# Altium footprint library Miscellaneous Connectors 05_10_18.PcbLib: 192 footprints (part 1 of 12)
Each footprint in its own frame and in the unit in brackets; x right, y up, seen from the top. Pads: shape width x height; smd on the part's side, far side on the other; paste and mask are expansions set on the pad; w line width, h text height; cw(c..) or ccw(c..) is an arc to the next point about the centre after c.
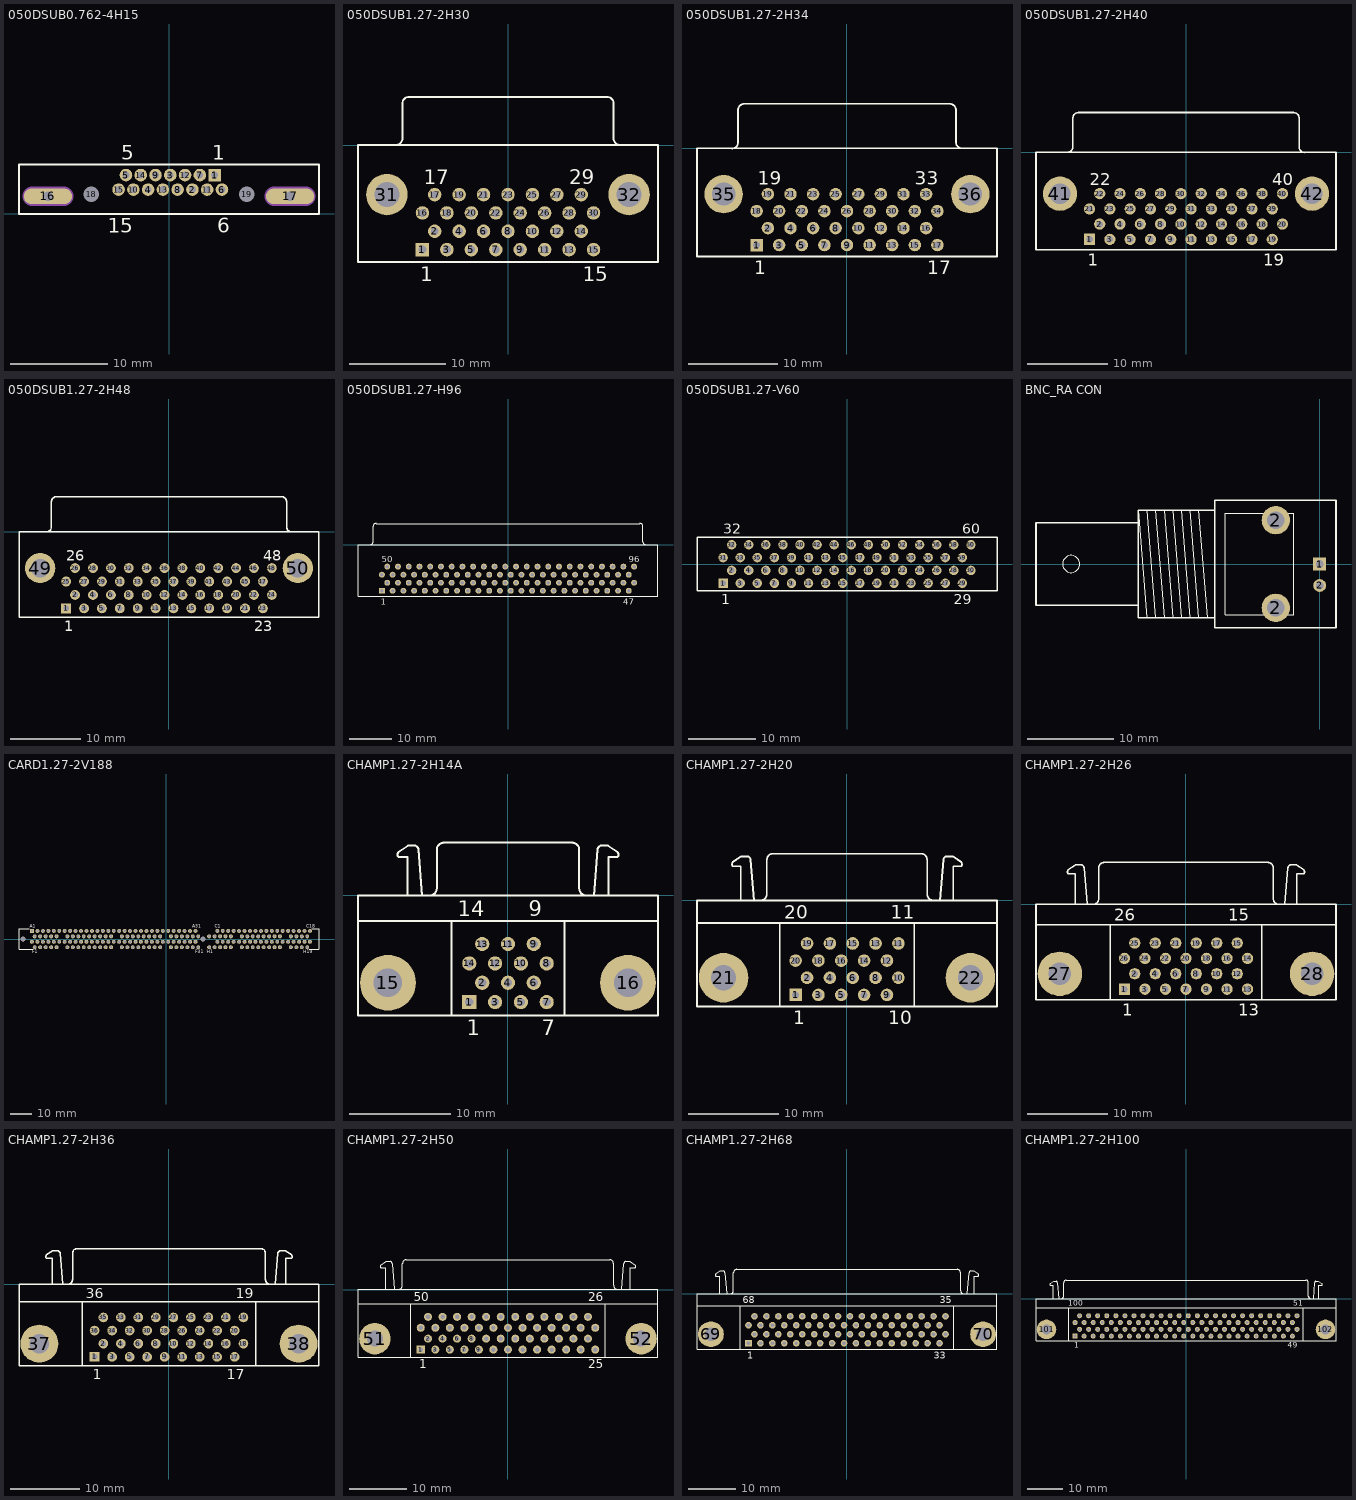
[diagram p0: the footprints below, top view; thin cyan lines are the x and y axes]

## 050DSUB0.762-4H15 [mm] "Connector; D Subminiature; 15 Position; Right Angle; Pitch 0.762 mm"
height 12.65
pads (19):
  rect 1.3x1.3 hole 0.7: 1(4.703,4)
  round 1.3 hole 0.7: 2(2.417,2.5) 3(0.131,4) 4(-2.155,2.5) 5(-4.441,4) 6(5.465,2.5) 7(3.179,4) 8(0.893,2.5) 9(-1.393,4) 10(-3.679,2.5) 11(3.941,2.5) 12(1.655,4) 13(-0.631,2.5) 14(-2.917,4) 15(-5.203,2.5)
  oval 5x1.6 hole 1: 16(-12.495,1.8) 17(12.495,1.8)
  round 1.3 hole 1.6: 18(-8,2) 19(8,2)
Top Overlay:
  lines w0.2: -15.48,0 15.48,0 15.48,5.1 -15.48,5.1 -15.48,0
  text "15" at -6.328,-1.975 h1.5
  text "6" at 4.965,-1.975 h1.5
  text "1" at 4.453,5.6 h1.5
  text "5" at -4.941,5.6 h1.5
Mechanical 1:
  lines w1.2: -14.12,1.8 -10.87,1.8 ; 10.87,1.8 14.12,1.8
  text "Alert PCB fab to slot details" at -15.505,-1.17 h0.3
  text "Slot 1.2x4.45mm, PTH" at -15.505,-1.67 h0.3
  text "Assign keep-out area to slot" at -15.505,-0.67 h0.3
  text "Mech 1 - Slot cut-out" at -15.505,-2.17 h0.3
  text "Mech 2 - Clearance, move to internal plane if present" at -15.505,-2.67 h0.3
Mechanical 2:
  lines w2.016: -14.12,1.8 -10.87,1.8 ; 10.87,1.8 14.12,1.8

## 050DSUB1.27-2H30 [mm] "Connector; D Subminiature; 30 Position; Right Angle; Pitch 1.27 mm"
height 8.1
pads (32):
  rect 1.4x1.4 hole 0.8: 1(-8.89,-10.87)
  round 1.4 hole 0.8: 2(-7.62,-8.965) 3(-6.35,-10.87) 4(-5.08,-8.965) 5(-3.81,-10.87) 6(-2.54,-8.965) 7(-1.27,-10.87) 8(0,-8.965) 9(1.27,-10.87) 10(2.54,-8.965) 11(3.81,-10.87) 12(5.08,-8.965) 13(6.35,-10.87) 14(7.62,-8.965) 15(8.89,-10.87) 16(-8.89,-7.06) 17(-7.62,-5.155) 18(-6.35,-7.06) 19(-5.08,-5.155) 20(-3.81,-7.06) 21(-2.54,-5.155) 22(-1.27,-7.06) 23(0,-5.155) 24(1.27,-7.06) 25(2.54,-5.155) 26(3.81,-7.06) 27(5.08,-5.155) 28(6.35,-7.06) 29(7.62,-5.155) 30(8.89,-7.06)
  round 4.3 hole 2.6: 31(-12.59,-5.155) 32(12.59,-5.155)
Top Overlay:
  lines w0.2: -11.67,0 ccw(c-11.67,0.695) -10.975,0.695 ; -10.975,0.715 -10.975,4.305 cw(c-10.28,4.305) -10.28,5 10.28,5 cw(c10.28,4.305) 10.975,4.305 ; 10.975,4.495 10.975,0.695 ccw(c11.67,0.695) 11.67,0 ; -15.59,-12.17 -15.59,0 15.59,0 15.59,-12.17 -15.59,-12.17
  text "17" at -8.745,-4.08 h1.5
  text "29" at 6.37,-4.08 h1.5
  text "1" at -9.14,-14.145 h1.5
  text "15" at 7.765,-14.145 h1.5

## 050DSUB1.27-2H34 [mm] "Connector; D Subminiature; 34 Position; Right Angle; Pitch 1.27 mm"
height 7.6
pads (36):
  rect 1.4x1.4 hole 0.8: 1(-10.16,-10.87)
  round 1.4 hole 0.8: 2(-8.89,-8.965) 3(-7.62,-10.87) 4(-6.35,-8.965) 5(-5.08,-10.87) 6(-3.81,-8.965) 7(-2.54,-10.87) 8(-1.27,-8.965) 9(0,-10.87) 10(1.27,-8.965) 11(2.54,-10.87) 12(3.81,-8.965) 13(5.08,-10.87) 14(6.35,-8.965) 15(7.62,-10.87) 16(8.89,-8.965) 17(10.16,-10.87) 18(-10.16,-7.06) 19(-8.89,-5.155) 20(-7.62,-7.06) 21(-6.35,-5.155) 22(-5.08,-7.06) 23(-3.81,-5.155) 24(-2.54,-7.06) 25(-1.27,-5.155) 26(0,-7.06) 27(1.27,-5.155) 28(2.54,-7.06) 29(3.81,-5.155) 30(5.08,-7.06) 31(6.35,-5.155) 32(7.62,-7.06) 33(8.89,-5.155) 34(10.16,-7.06)
  round 4.3 hole 2.6: 35(-13.86,-5.155) 36(13.86,-5.155)
Top Overlay:
  lines w0.2: -12.94,-0.02 ccw(c-12.94,0.675) -12.245,0.675 -12.245,4.305 cw(c-11.55,4.305) -11.55,5 11.5,5 ; 11.55,5 cw(c11.55,4.305) 12.245,4.305 12.245,0.695 ccw(c12.94,0.695) 12.94,0 ; -16.86,-12.17 -16.86,0 16.86,0 16.86,-12.17 -16.86,-12.17
  text "17" at 9.035,-14.145 h1.5
  text "1" at -10.41,-14.145 h1.5
  text "33" at 7.64,-4.08 h1.5
  text "19" at -10.015,-4.08 h1.5

## 050DSUB1.27-2H40 [mm] "Connector; D Subminiature; 40 Position; Right Angle; Pitch 1.27 mm"
height 8.1
pads (42):
  rect 1.4x1.4 hole 0.8: 1(-12.065,-10.87)
  round 1.4 hole 0.8: 2(-10.795,-8.965) 3(-9.525,-10.87) 4(-8.255,-8.965) 5(-6.985,-10.87) 6(-5.715,-8.965) 7(-4.445,-10.87) 8(-3.175,-8.965) 9(-1.905,-10.87) 10(-0.635,-8.965) 11(0.635,-10.87) 12(1.905,-8.965) 13(3.175,-10.87) 14(4.445,-8.965) 15(5.715,-10.87) 16(6.985,-8.965) 17(8.255,-10.87) 18(9.525,-8.965) 19(10.795,-10.87) 20(12.065,-8.965) 21(-12.065,-7.06) 22(-10.795,-5.155) 23(-9.525,-7.06) 24(-8.255,-5.155) 25(-6.985,-7.06) 26(-5.715,-5.155) 27(-4.445,-7.06) 28(-3.175,-5.155) 29(-1.905,-7.06) 30(-0.635,-5.155) 31(0.635,-7.06) 32(1.905,-5.155) 33(3.175,-7.06) 34(4.445,-5.155) 35(5.715,-7.06) 36(6.985,-5.155) 37(8.255,-7.06) 38(9.525,-5.155) 39(10.795,-7.06) 40(12.065,-5.155)
  round 4.3 hole 2.6: 41(-15.765,-5.155) 42(15.765,-5.155)
Top Overlay:
  lines w0.2: -14.845,0.02 ccw(c-14.845,0.715) -14.15,0.715 -14.15,4.305 cw(c-13.455,4.305) -13.455,5 ; -13.5,5 13.5,5 ; 13.455,5 cw(c13.455,4.305) 14.15,4.305 14.15,0.687 ccw(c14.845,0.687) 14.845,-0.008 ; -18.765,-12.17 -18.765,0 18.765,0 18.765,-12.17 -18.765,-12.17
  text "19" at 9.67,-14.145 h1.5
  text "1" at -12.315,-14.145 h1.5
  text "22" at -12.045,-4.08 h1.5
  text "40" at 10.815,-4.08 h1.5

## 050DSUB1.27-2H48 [mm] "Connector; D Subminiature; 48 Position; Right Angle; Pitch 1.27 mm"
height 7.6
pads (50):
  rect 1.4x1.4 hole 0.8: 1(-14.605,-10.87)
  round 1.4 hole 0.8: 2(-13.335,-8.965) 3(-12.065,-10.87) 4(-10.795,-8.965) 5(-9.525,-10.87) 6(-8.255,-8.965) 7(-6.985,-10.87) 8(-5.715,-8.965) 9(-4.445,-10.87) 10(-3.175,-8.965) 11(-1.905,-10.87) 12(-0.635,-8.965) 13(0.635,-10.87) 14(1.905,-8.965) 15(3.175,-10.87) 16(4.445,-8.965) 17(5.715,-10.87) 18(6.985,-8.965) 19(8.255,-10.87) 20(9.525,-8.965) 21(10.795,-10.87) 22(12.065,-8.965) 23(13.335,-10.87) 24(14.605,-8.965) 25(-14.605,-7.06) 26(-13.335,-5.155) 27(-12.065,-7.06) 28(-10.795,-5.155) 29(-9.525,-7.06) 30(-8.255,-5.155) 31(-6.985,-7.06) 32(-5.715,-5.155) 33(-4.445,-7.06) 34(-3.175,-5.155) 35(-1.905,-7.06) 36(-0.635,-5.155) 37(0.635,-7.06) 38(1.905,-5.155) 39(3.175,-7.06) 40(4.445,-5.155) 41(5.715,-7.06) 42(6.985,-5.155) 43(8.255,-7.06) 44(9.525,-5.155) 45(10.795,-7.06) 46(12.065,-5.155) 47(13.335,-7.06) 48(14.605,-5.155)
  round 4.3 hole 2.6: 49(-18.305,-5.155) 50(18.305,-5.155)
Top Overlay:
  lines w0.2: -17.385,0.002 ccw(c-17.385,0.697) -16.69,0.697 -16.69,4.305 cw(c-15.995,4.305) -15.995,5 ; -16,5 16,5 ; 15.995,5 cw(c15.995,4.305) 16.69,4.305 16.69,0.717 ccw(c17.385,0.717) 17.385,0.022 ; -21.305,-12.17 21.305,-12.17 21.305,0 -21.305,0 -21.305,-12.17
  text "26" at -14.585,-4.08 h1.5
  text "48" at 13.355,-4.08 h1.5
  text "1" at -14.855,-14.145 h1.5
  text "23" at 12.085,-14.145 h1.5

## 050DSUB1.27-H96 [mm] "Connector; D Subminiature; 96 Position; Right Angle; Pitch 1.27 mm"
height 7.5
pads (96):
  rect 1.4x1.4 hole 0.8: 1(-29.845,-10.915)
  round 1.4 hole 0.8: 2(-28.575,-9.01) 3(-27.305,-10.915) 4(-26.035,-9.01) 5(-24.765,-10.915) 6(-23.495,-9.01) 7(-22.225,-10.915) 8(-20.955,-9.01) 9(-19.685,-10.915) 10(-18.415,-9.01) 11(-17.145,-10.915) 12(-15.875,-9.01) 13(-14.605,-10.915) 14(-13.335,-9.01) 15(-12.065,-10.915) 16(-10.795,-9.01) 17(-9.525,-10.915) 18(-8.255,-9.01) 19(-6.985,-10.915) 20(-5.715,-9.01) 21(-4.445,-10.915) 22(-3.175,-9.01) 23(-1.905,-10.915) 24(-0.635,-9.01) 25(0.635,-10.915) 26(1.905,-9.01) 27(3.175,-10.915) 28(4.445,-9.01) 29(5.715,-10.915) 30(6.985,-9.01) 31(8.255,-10.915) 32(9.525,-9.01) 33(10.795,-10.915) 34(12.065,-9.01) 35(13.335,-10.915) 36(14.605,-9.01) 37(15.875,-10.915) 38(17.145,-9.01) 39(18.415,-10.915) 40(19.685,-9.01) 41(20.955,-10.915) 42(22.225,-9.01) 43(23.495,-10.915) 44(24.765,-9.01) 45(26.035,-10.915) 46(27.305,-9.01) 47(28.575,-10.915) 48(29.845,-9.01) 49(-29.845,-7.105) 50(-28.575,-5.2) 51(-27.305,-7.105) 52(-26.035,-5.2) 53(-24.765,-7.105) 54(-23.495,-5.2) 55(-22.225,-7.105) 56(-20.955,-5.2) 57(-19.685,-7.105) 58(-18.415,-5.2) 59(-17.145,-7.105) 60(-15.875,-5.2) 61(-14.605,-7.105) 62(-13.335,-5.2) 63(-12.065,-7.105) 64(-10.795,-5.2) 65(-9.525,-7.105) 66(-8.255,-5.2) 67(-6.985,-7.105) 68(-5.715,-5.2) 69(-4.445,-7.105) 70(-3.175,-5.2) 71(-1.905,-7.105) 72(-0.635,-5.2) 73(0.635,-7.105) 74(1.905,-5.2) 75(3.175,-7.105) 76(4.445,-5.2) 77(5.715,-7.105) 78(6.985,-5.2) 79(8.255,-7.105) 80(9.525,-5.2) 81(10.795,-7.105) 82(12.065,-5.2) 83(13.335,-7.105) 84(14.605,-5.2) 85(15.875,-7.105) 86(17.145,-5.2) 87(18.415,-7.105) 88(19.685,-5.2) 89(20.955,-7.105) 90(22.225,-5.2) 91(23.495,-7.105) 92(24.765,-5.2) 93(26.035,-7.105) 94(27.305,-5.2) 95(28.575,-7.105) 96(29.845,-5.2)
Top Overlay:
  lines w0.2: -32.625,0.005 ccw(c-32.625,0.7) -31.93,0.7 -31.93,4.33 cw(c-31.235,4.33) -31.235,5.025 ; -31.235,5 31.235,5 ; 31.235,5.025 cw(c31.235,4.33) 31.93,4.33 31.93,0.7 ccw(c32.625,0.7) 32.625,0.005 ; -35.5,-12.2 -35.5,0 35.5,0 35.5,-12.2 -35.5,-12.2
  text "96" at 28.595,-4.125 h1.5
  text "50" at -29.825,-4.125 h1.5
  text "1" at -30.095,-14.175 h1.5
  text "47" at 27.325,-14.175 h1.5

## 050DSUB1.27-V60 [mm] "Connector; D Subminiature; 60 Position; Vertical; Pitch 1.27 mm"
height 8
pads (60):
  rect 1.4x1.4 hole 0.8: 1(-18.415,-2.857)
  round 1.4 hole 0.8: 2(-17.145,-0.953) 3(-15.875,-2.857) 4(-14.605,-0.953) 5(-13.335,-2.857) 6(-12.065,-0.953) 7(-10.795,-2.857) 8(-9.525,-0.953) 9(-8.255,-2.857) 10(-6.985,-0.953) 11(-5.715,-2.857) 12(-4.445,-0.953) 13(-3.175,-2.857) 14(-1.905,-0.953) 15(-0.635,-2.857) 16(0.635,-0.953) 17(1.905,-2.857) 18(3.175,-0.953) 19(4.445,-2.857) 20(5.715,-0.953) 21(6.985,-2.857) 22(8.255,-0.953) 23(9.525,-2.857) 24(10.795,-0.953) 25(12.065,-2.857) 26(13.335,-0.953) 27(14.605,-2.857) 28(15.875,-0.953) 29(17.145,-2.857) 30(18.415,-0.953) 31(-18.415,0.953) 32(-17.145,2.857) 33(-15.875,0.953) 34(-14.605,2.857) 35(-13.335,0.953) 36(-12.065,2.857) 37(-10.795,0.953) 38(-9.525,2.857) 39(-8.255,0.953) 40(-6.985,2.857) 41(-5.715,0.953) 42(-4.445,2.857) 43(-3.175,0.953) 44(-1.905,2.857) 45(-0.635,0.953) 46(0.635,2.857) 47(1.905,0.953) 48(3.175,2.857) 49(4.445,0.953) 50(5.715,2.857) 51(6.985,0.953) 52(8.255,2.857) 53(9.525,0.953) 54(10.795,2.857) 55(12.065,0.953) 56(13.335,2.857) 57(14.605,0.953) 58(15.875,2.857) 59(17.145,0.953) 60(18.415,2.857)
Top Overlay:
  lines w0.2: -22.3,-4 22.3,-4 22.3,4 -22.3,4 -22.3,-4
  text "60" at 17.165,4.475 h1.5
  text "32" at -18.395,4.475 h1.5
  text "29" at 15.895,-5.975 h1.5
  text "1" at -18.665,-5.975 h1.5

## BNC_RA CON [mm] "Connector; BNC Elbow"
pads (4):
  rect 1.5x1.5 hole 0.9: 1(0,0)
  round 3.3 hole 2: 2(-5.1,-5.1) 2(-5.1,5.1)
  round 1.5 hole 0.9: 2(0,-2.5)
Top Overlay:
  circle w0.025: c-28.9,0 r1
  lines w0.025: -20.1,-6.25 -21.1,6.25 ; -20.1,6.25 -19.1,-6.25 ; -19.1,6.25 -18.1,-6.25 ; -18.1,6.25 -17.1,-6.25 ; -17.1,6.25 -16.1,-6.25 ; -16.1,6.25 -15.1,-6.25 ; -15.1,6.25 -14.1,-6.25 ; -14.1,6.25 -13.1,-6.25 ; -21.1,-4.8 -33,-4.8 -33,4.8 -21.1,4.8 ; -21.1,-4.8 -21.1,4.8 ; -21.1,-4.8 -21.1,-6.25 -12.2,-6.25 ; -21.1,4.8 -21.1,6.25 ; -21.1,6.25 -12.2,6.25 ; -12.2,-6.25 -12.2,6.25 ; -12.2,-6.25 -12.2,-7.4 1.9,-7.4 1.9,7.4 -12.2,7.4 -12.2,6.25 ; -11,-5.9 -3,-5.9 -3,5.9 -11,5.9 -11,-5.9
  lines w0.2: -21.1,-4.8 -21.1,4.8 ; -21.1,-4.8 -33,-4.8 -33,4.8 -21.1,4.8 ; -21.1,-4.8 -21.1,-6.25 -12.2,-6.25 ; -21.1,4.8 -21.1,6.25 -12.2,6.25 ; -12.2,-6.25 -12.2,6.25 ; -12.2,-6.25 -12.2,-7.4 1.9,-7.4 1.9,7.4 -12.2,7.4 -12.2,6.25

## CARD1.27-2V188 [mm] "Connector; EISA, Thru-Hole; 188 Position; Vertical; Pitch 1.27 mm"
height 15.49
pads (190):
  rect 1.85x1.85 hole 1.1: A1(-62.685,3.81)
  round 1.85 hole 1.1: A2(-60.145,3.81) A3(-57.605,3.81) A4(-55.065,3.81) A5(-52.525,3.81) A6(-49.985,3.81) A7(-47.445,3.81) A8(-44.905,3.81) A9(-42.365,3.81) A10(-39.825,3.81) A11(-37.285,3.81) A12(-34.745,3.81) A13(-32.205,3.81) A14(-29.665,3.81) A15(-27.125,3.81) A16(-24.585,3.81) A17(-22.045,3.81) A18(-19.505,3.81) A19(-16.965,3.81) A20(-14.425,3.81) A21(-11.885,3.81) A22(-9.345,3.81) A23(-6.805,3.81) A24(-4.265,3.81) A25(-1.725,3.81) A26(0.815,3.81) A27(3.355,3.81) A28(5.895,3.81) A29(8.435,3.81) A30(10.975,3.81) A31(13.515,3.81) B1(-62.685,-1.27) B2(-60.145,-1.27) B3(-57.605,-1.27) B4(-55.065,-1.27) B5(-52.525,-1.27) B6(-49.985,-1.27) B7(-47.445,-1.27) B8(-44.905,-1.27) B9(-42.365,-1.27) B10(-39.825,-1.27) B11(-37.285,-1.27) B12(-34.745,-1.27) B13(-32.205,-1.27) B14(-29.665,-1.27) B15(-27.125,-1.27) B16(-24.585,-1.27) B17(-22.045,-1.27) B18(-19.505,-1.27) B19(-16.965,-1.27) B20(-14.425,-1.27) B21(-11.885,-1.27) B22(-9.345,-1.27) B23(-6.805,-1.27) B24(-4.265,-1.27) B25(-1.725,-1.27) B26(0.815,-1.27) B27(3.355,-1.27) B28(5.895,-1.27) B29(8.435,-1.27) B30(10.975,-1.27) B31(13.515,-1.27) C1(23.675,3.81) C2(26.215,3.81) C3(28.755,3.81) C4(31.295,3.81) C5(33.835,3.81) C6(36.375,3.81) C7(38.915,3.81) C8(41.455,3.81) C9(43.995,3.81) C10(46.535,3.81) C11(49.075,3.81) C12(51.615,3.81) C13(54.155,3.81) C14(56.695,3.81) C15(59.235,3.81) C16(61.775,3.81) C17(64.315,3.81) C18(66.855,3.81) D1(23.675,-1.27) D2(26.215,-1.27) D3(28.755,-1.27) D4(31.295,-1.27) D5(33.835,-1.27) D6(36.375,-1.27) D7(38.915,-1.27) D8(41.455,-1.27) D9(43.995,-1.27) D10(46.535,-1.27) D11(49.075,-1.27) D12(51.615,-1.27) D13(54.155,-1.27) D14(56.695,-1.27) D15(59.235,-1.27) D16(61.775,-1.27) D17(64.315,-1.27) D18(66.855,-1.27) E1(-61.415,1.27) E2(-58.875,1.27) E3(-56.335,1.27) E4(-53.795,1.27) E5(-51.255,1.27) E7(-46.175,1.27) E8(-43.635,1.27) E9(-41.095,1.27) E10(-38.555,1.27) E11(-36.015,1.27) E12(-33.475,1.27) E13(-30.935,1.27) E14(-28.395,1.27) E15(-25.855,1.27) E17(-20.775,1.27) E18(-18.235,1.27) E19(-15.695,1.27) E20(-13.155,1.27) E21(-10.615,1.27) E22(-8.075,1.27) E23(-5.535,1.27) E24(-2.995,1.27) E26(2.085,1.27) E27(4.625,1.27) E28(7.165,1.27) E29(9.705,1.27) E30(12.245,1.27) E31(14.785,1.27) F1(-61.415,-3.81) F2(-58.875,-3.81) F3(-56.335,-3.81) F4(-53.795,-3.81) F5(-51.255,-3.81) F7(-46.175,-3.81) F8(-43.635,-3.81) F9(-41.095,-3.81) F10(-38.555,-3.81) F11(-36.015,-3.81) F12(-33.475,-3.81) F13(-30.935,-3.81) F14(-28.395,-3.81) F15(-25.855,-3.81) F17(-20.775,-3.81) F18(-18.235,-3.81) F19(-15.695,-3.81) F20(-13.155,-3.81) F21(-10.615,-3.81) F22(-8.075,-3.81) F23(-5.535,-3.81) F24(-2.995,-3.81) F26(2.085,-3.81) F27(4.625,-3.81) F28(7.165,-3.81) F29(9.705,-3.81) F30(12.245,-3.81) F31(14.785,-3.81) G1(19.865,1.27) G2(22.405,1.27) G3(24.945,1.27) G4(27.485,1.27) G5(30.025,1.27) G7(35.105,1.27) G8(37.645,1.27) G9(40.185,1.27) G10(42.725,1.27) G11(45.265,1.27) G12(47.805,1.27) G13(50.345,1.27) G14(52.885,1.27) G16(57.965,1.27) G17(60.505,1.27) G18(63.045,1.27) G19(65.585,1.27) H1(19.865,-3.81) H2(22.405,-3.81) H3(24.945,-3.81) H4(27.485,-3.81) H5(30.025,-3.81) H7(35.105,-3.81) H8(37.645,-3.81) H9(40.185,-3.81) H10(42.725,-3.81) H11(45.265,-3.81) H12(47.805,-3.81) H13(50.345,-3.81) H14(52.885,-3.81) H16(57.965,-3.81) H17(60.505,-3.81) H18(63.045,-3.81) H19(65.585,-3.81)
  round 2.14 hole 2.45: MH1(-66.855,0) MH2(16.965,0)
Top Overlay:
  lines w0.2: -64.06,4.76 -68.735,4.76 -68.735,-4.76 -62.345,-4.76 ; 66.515,-4.76 71.065,-4.76 71.065,4.76 67.785,4.76
  text "A1" at -63.785,5.26 h1.5
  text "A31" at 12.015,5.26 h1.5
  text "F31" at 13.285,-6.71 h1.5
  text "F1" at -62.515,-6.71 h1.5
  text "H1" at 18.765,-6.71 h1.5
  text "C1" at 22.575,5.26 h1.5
  text "H19" at 63.835,-6.71 h1.5
  text "C18" at 65.105,5.26 h1.5

## CHAMP1.27-2H14A [mm] "Connector; 14 Position; Right Angle; Pitch 1.27 mm"
height 9.6
pads (16):
  rect 1.4x1.4 hole 0.8: 1(-3.81,-10.5)
  round 1.4 hole 0.8: 2(-2.54,-8.595) 3(-1.27,-10.5) 4(0,-8.595) 5(1.27,-10.5) 6(2.54,-8.595) 7(3.81,-10.5) 8(3.81,-6.69) 9(2.54,-4.785) 10(1.27,-6.69) 11(0,-4.785) 12(-1.27,-6.69) 13(-2.54,-4.785) 14(-3.81,-6.69)
  round 5.5 hole 2.8: 15(-11.82,-8.595) 16(11.82,-8.595)
Top Overlay:
  lines w0.2: -14.77,-2.5 14.77,-2.5 ; -10.785,4.27 -9.845,4.898 -9.123,4.898 cw(c-9.225,4.5) -8.815,4.5 ; -10.771,4.255 ccw(c-10.545,4.01) -10.795,3.79 -9.915,3.79 -9.915,0 ; -8.815,4.52 -8.445,0 ; -7.705,0.005 ccw(c-7.705,0.7) -7.01,0.7 -7.01,4.5 ; -7.005,4.505 cw(c-6.31,4.505) -6.31,5.2 6.31,5.2 cw(c6.31,4.505) 7.005,4.505 ; -5.57,-11.8 -5.57,-2.58 ; 5.57,-11.8 5.57,-2.5 ; 7.01,4.5 7.01,0.7 ccw(c7.705,0.7) 7.705,0.005 ; 8.445,0 8.815,4.52 ; 8.815,4.5 cw(c9.225,4.5) 9.123,4.898 9.845,4.898 10.785,4.27 ; 9.915,0 9.915,3.79 10.795,3.79 ccw(c10.545,4.01) 10.771,4.255 ; -14.77,-11.8 14.77,-11.8 14.77,0 -14.77,0 -14.77,-11.8
  text "9" at 2.04,-2.025 h1.5
  text "14" at -4.935,-2.025 h1.5
  text "1" at -4.06,-13.775 h1.5
  text "7" at 3.31,-13.775 h1.5

## CHAMP1.27-2H20 [mm] "Connector; 20 Position; Right Angle; Pitch 1.27 mm"
height 9.6
pads (22):
  rect 1.4x1.4 hole 0.8: 1(-5.715,-10.5)
  round 1.4 hole 0.8: 2(-4.445,-8.595) 3(-3.175,-10.5) 4(-1.905,-8.595) 5(-0.635,-10.5) 6(0.635,-8.595) 7(1.905,-10.5) 8(3.175,-8.595) 9(4.445,-10.5) 10(5.715,-8.595) 11(5.715,-4.785) 12(4.445,-6.69) 13(3.175,-4.785) 14(1.905,-6.69) 15(0.635,-4.785) 16(-0.635,-6.69) 17(-1.905,-4.785) 18(-3.175,-6.69) 19(-4.445,-4.785) 20(-5.715,-6.69)
  round 5.5 hole 2.8: 21(-13.725,-8.595) 22(13.725,-8.595)
Top Overlay:
  lines w0.2: -16.675,-2.5 16.675,-2.5 ; -12.69,4.27 -11.75,4.898 -11.028,4.898 cw(c-11.13,4.5) -10.72,4.5 ; -12.676,4.255 ccw(c-12.45,4.01) -12.7,3.79 -11.82,3.79 -11.82,0 ; -10.72,4.52 -10.35,0 ; -9.61,0.005 ccw(c-9.61,0.7) -8.915,0.7 -8.915,4.5 ; -8.91,4.505 cw(c-8.215,4.505) -8.215,5.2 8.215,5.2 cw(c8.215,4.505) 8.91,4.505 ; -7.475,-11.8 -7.475,-2.58 ; 7.475,-11.8 7.475,-2.5 ; 8.915,4.5 8.915,0.7 ccw(c9.61,0.7) 9.61,0.005 ; 10.35,0 10.72,4.52 ; 10.72,4.5 cw(c11.13,4.5) 11.028,4.898 11.75,4.898 12.69,4.27 ; 11.82,0 11.82,3.79 12.7,3.79 ccw(c12.45,4.01) 12.676,4.255 ; -16.675,-11.8 16.675,-11.8 16.675,0 -16.675,0 -16.675,-11.8
  text "11" at 4.84,-2.025 h1.5
  text "20" at -6.965,-2.025 h1.5
  text "10" at 4.59,-13.775 h1.5
  text "1" at -5.965,-13.775 h1.5

## CHAMP1.27-2H26 [mm] "Connector; 26 Position; Right Angle; Pitch 1.27 mm"
height 9.6
pads (28):
  rect 1.4x1.4 hole 0.8: 1(-7.62,-10.5)
  round 1.4 hole 0.8: 2(-6.35,-8.595) 3(-5.08,-10.5) 4(-3.81,-8.595) 5(-2.54,-10.5) 6(-1.27,-8.595) 7(0,-10.5) 8(1.27,-8.595) 9(2.54,-10.5) 10(3.81,-8.595) 11(5.08,-10.5) 12(6.35,-8.595) 13(7.62,-10.5) 14(7.62,-6.69) 15(6.35,-4.785) 16(5.08,-6.69) 17(3.81,-4.785) 18(2.54,-6.69) 19(1.27,-4.785) 20(0,-6.69) 21(-1.27,-4.785) 22(-2.54,-6.69) 23(-3.81,-4.785) 24(-5.08,-6.69) 25(-6.35,-4.785) 26(-7.62,-6.69)
  round 5.5 hole 2.8: 27(-15.63,-8.595) 28(15.63,-8.595)
Top Overlay:
  lines w0.2: -18.58,-2.5 18.58,-2.5 ; -14.595,4.27 -13.655,4.898 -12.933,4.898 cw(c-13.035,4.5) -12.625,4.5 ; -14.581,4.255 ccw(c-14.355,4.01) -14.605,3.79 -13.725,3.79 -13.725,0 ; -12.625,4.52 -12.255,0 ; -11.515,0.005 ccw(c-11.515,0.7) -10.82,0.7 -10.82,4.5 ; -10.815,4.505 cw(c-10.12,4.505) -10.12,5.2 10.12,5.2 cw(c10.12,4.505) 10.815,4.505 ; -9.38,-11.8 -9.38,-2.58 ; 9.38,-11.8 9.38,-2.5 ; 10.82,4.5 10.82,0.7 ccw(c11.515,0.7) 11.515,0.005 ; 12.255,0 12.625,4.52 ; 12.625,4.5 cw(c13.035,4.5) 12.933,4.898 13.655,4.898 14.595,4.27 ; 13.725,0 13.725,3.79 14.605,3.79 ccw(c14.355,4.01) 14.581,4.255 ; -18.58,-11.8 -18.58,0 18.58,0 18.58,-11.8 -18.58,-11.8
  text "13" at 6.495,-13.775 h1.5
  text "26" at -8.87,-2.025 h1.5
  text "15" at 5.225,-2.025 h1.5
  text "1" at -7.87,-13.775 h1.5

## CHAMP1.27-2H36 [mm] "Connector; 36 Position; Right Angle; Pitch 1.27 mm"
height 9.6
pads (38):
  rect 1.4x1.4 hole 0.8: 1(-10.795,-10.5)
  round 1.4 hole 0.8: 2(-9.525,-8.595) 3(-8.255,-10.5) 4(-6.985,-8.595) 5(-5.715,-10.5) 6(-4.445,-8.595) 7(-3.175,-10.5) 8(-1.905,-8.595) 9(-0.635,-10.5) 10(0.635,-8.595) 11(1.905,-10.5) 12(3.175,-8.595) 13(4.445,-10.5) 14(5.715,-8.595) 15(6.985,-10.5) 16(8.255,-8.595) 17(9.525,-10.5) 18(10.795,-8.595) 19(10.795,-4.785) 20(9.525,-6.69) 21(8.255,-4.785) 22(6.985,-6.69) 23(5.715,-4.785) 24(4.445,-6.69) 25(3.175,-4.785) 26(1.905,-6.69) 27(0.635,-4.785) 28(-0.635,-6.69) 29(-1.905,-4.785) 30(-3.175,-6.69) 31(-4.445,-4.785) 32(-5.715,-6.69) 33(-6.985,-4.785) 34(-8.255,-6.69) 35(-9.525,-4.785) 36(-10.795,-6.69)
  round 5.5 hole 2.8: 37(-18.805,-8.595) 38(18.805,-8.595)
Top Overlay:
  lines w0.2: -21.755,-2.5 21.755,-2.5 ; -17.77,4.27 -16.83,4.898 -16.108,4.898 cw(c-16.21,4.5) -15.8,4.5 ; -17.756,4.255 ccw(c-17.53,4.01) -17.78,3.79 -16.9,3.79 -16.9,0 ; -15.8,4.52 -15.43,0 ; -14.69,0.005 ccw(c-14.69,0.7) -13.995,0.7 -13.995,4.5 ; -13.99,4.505 cw(c-13.295,4.505) -13.295,5.2 13.295,5.2 cw(c13.295,4.505) 13.99,4.505 ; -12.555,-11.8 -12.555,-2.58 ; 12.555,-11.8 12.555,-2.5 ; 13.995,4.5 13.995,0.7 ccw(c14.69,0.7) 14.69,0.005 ; 15.43,0 15.8,4.52 ; 15.8,4.5 cw(c16.21,4.5) 16.108,4.898 16.83,4.898 17.77,4.27 ; 16.9,0 16.9,3.79 17.78,3.79 ccw(c17.53,4.01) 17.756,4.255 ; -21.755,-11.8 21.755,-11.8 21.755,0 -21.755,0 -21.755,-11.8
  text "19" at 9.67,-2.025 h1.5
  text "36" at -12.045,-2.025 h1.5
  text "17" at 8.4,-13.775 h1.5
  text "1" at -11.045,-13.775 h1.5

## CHAMP1.27-2H50 [mm] "Connector; 50 Position; Right Angle; Pitch 1.27 mm"
height 9.6
pads (52):
  rect 1.4x1.4 hole 0.8: 1(-15.24,-10.477)
  round 1.4 hole 0.8: 2(-13.97,-8.572) 3(-12.7,-10.477) 4(-11.43,-8.572) 5(-10.16,-10.477) 6(-8.89,-8.572) 7(-7.62,-10.477) 8(-6.35,-8.572) 9(-5.08,-10.477) 10(-3.81,-8.572) 11(-2.54,-10.477) 12(-1.27,-8.572) 13(0,-10.477) 14(1.27,-8.572) 15(2.54,-10.477) 16(3.81,-8.572) 17(5.08,-10.477) 18(6.35,-8.572) 19(7.62,-10.477) 20(8.89,-8.572) 21(10.16,-10.477) 22(11.43,-8.572) 23(12.7,-10.477) 24(13.97,-8.572) 25(15.24,-10.477) 26(15.24,-6.667) 27(13.97,-4.763) 28(12.7,-6.667) 29(11.43,-4.763) 30(10.16,-6.667) 31(8.89,-4.763) 32(7.62,-6.667) 33(6.35,-4.763) 34(5.08,-6.667) 35(3.81,-4.763) 36(2.54,-6.667) 37(1.27,-4.763) 38(0,-6.667) 39(-1.27,-4.763) 40(-2.54,-6.667) 41(-3.81,-4.763) 42(-5.08,-6.667) 43(-6.35,-4.763) 44(-7.62,-6.667) 45(-8.89,-4.763) 46(-10.16,-6.667) 47(-11.43,-4.763) 48(-12.7,-6.667) 49(-13.97,-4.763) 50(-15.24,-6.667)
  round 5.5 hole 2.8: 51(-23.25,-8.572) 52(23.25,-8.572)
Top Overlay:
  lines w0.2: -26.2,-2.478 26.2,-2.478 ; -22.215,4.292 -21.275,4.92 -20.553,4.92 cw(c-20.655,4.523) -20.245,4.523 ; -22.201,4.277 ccw(c-21.975,4.032) -22.225,3.812 -21.345,3.813 -21.345,0.022 ; -20.245,4.543 -19.875,0.022 ; -19.135,0.028 ccw(c-19.135,0.723) -18.44,0.723 -18.44,4.523 ; -18.435,4.527 cw(c-17.74,4.527) -17.74,5.222 17.74,5.222 cw(c17.74,4.527) 18.435,4.527 ; -17,-11.777 -17,-2.558 ; 17,-11.777 17,-2.478 ; 18.44,4.523 18.44,0.723 ccw(c19.135,0.723) 19.135,0.028 ; 19.875,0.022 20.245,4.543 ; 20.245,4.523 cw(c20.655,4.523) 20.553,4.92 21.275,4.92 22.215,4.292 ; 21.345,0.022 21.345,3.812 22.225,3.813 ccw(c21.975,4.032) 22.201,4.277 ; -26.2,-11.777 -26.2,0.022 26.2,0.022 26.2,-11.777 -26.2,-11.777
  text "1" at -15.49,-13.752 h1.5
  text "25" at 13.99,-13.752 h1.5
  text "50" at -16.49,-2.003 h1.5
  text "26" at 13.99,-2.003 h1.5

## CHAMP1.27-2H68 [mm] "Connector; 68 Position; Right Angle; Pitch 1.27 mm"
height 9.6
pads (70):
  rect 1.4x1.4 hole 0.8: 1(-20.955,-10.5)
  round 1.4 hole 0.8: 2(-19.685,-8.595) 3(-18.415,-10.5) 4(-17.145,-8.595) 5(-15.875,-10.5) 6(-14.605,-8.595) 7(-13.335,-10.5) 8(-12.065,-8.595) 9(-10.795,-10.5) 10(-9.525,-8.595) 11(-8.255,-10.5) 12(-6.985,-8.595) 13(-5.715,-10.5) 14(-4.445,-8.595) 15(-3.175,-10.5) 16(-1.905,-8.595) 17(-0.635,-10.5) 18(0.635,-8.595) 19(1.905,-10.5) 20(3.175,-8.595) 21(4.445,-10.5) 22(5.715,-8.595) 23(6.985,-10.5) 24(8.255,-8.595) 25(9.525,-10.5) 26(10.795,-8.595) 27(12.065,-10.5) 28(13.335,-8.595) 29(14.605,-10.5) 30(15.875,-8.595) 31(17.145,-10.5) 32(18.415,-8.595) 33(19.685,-10.5) 34(20.955,-8.595) 35(20.955,-4.785) 36(19.685,-6.69) 37(18.415,-4.785) 38(17.145,-6.69) 39(15.875,-4.785) 40(14.605,-6.69) 41(13.335,-4.785) 42(12.065,-6.69) 43(10.795,-4.785) 44(9.525,-6.69) 45(8.255,-4.785) 46(6.985,-6.69) 47(5.715,-4.785) 48(4.445,-6.69) 49(3.175,-4.785) 50(1.905,-6.69) 51(0.635,-4.785) 52(-0.635,-6.69) 53(-1.905,-4.785) 54(-3.175,-6.69) 55(-4.445,-4.785) 56(-5.715,-6.69) 57(-6.985,-4.785) 58(-8.255,-6.69) 59(-9.525,-4.785) 60(-10.795,-6.69) 61(-12.065,-4.785) 62(-13.335,-6.69) 63(-14.605,-4.785) 64(-15.875,-6.69) 65(-17.145,-4.785) 66(-18.415,-6.69) 67(-19.685,-4.785) 68(-20.955,-6.69)
  round 5.5 hole 2.8: 69(-28.965,-8.595) 70(28.965,-8.595)
Top Overlay:
  lines w0.2: -31.915,-2.5 31.915,-2.5 ; -27.93,4.27 -26.99,4.898 -26.268,4.898 cw(c-26.37,4.5) -25.96,4.5 ; -27.916,4.255 ccw(c-27.69,4.01) -27.94,3.79 -27.06,3.79 -27.06,0 ; -25.96,4.52 -25.59,0 ; -24.85,0.005 ccw(c-24.85,0.7) -24.155,0.7 -24.155,4.5 ; -24.15,4.505 cw(c-23.455,4.505) -23.455,5.2 23.455,5.2 cw(c23.455,4.505) 24.15,4.505 ; -22.715,-11.8 -22.715,-2.58 ; 22.715,-11.8 22.715,-2.5 ; 24.155,4.5 24.155,0.7 ccw(c24.85,0.7) 24.85,0.005 ; 25.59,0 25.96,4.52 ; 25.96,4.5 cw(c26.37,4.5) 26.268,4.898 26.99,4.898 27.93,4.27 ; 27.06,0 27.06,3.79 27.94,3.79 ccw(c27.69,4.01) 27.916,4.255 ; -31.915,-11.8 -31.915,0 31.915,0 31.915,-11.8 -31.915,-11.8
  text "35" at 19.705,-2.025 h1.5
  text "68" at -22.205,-2.025 h1.5
  text "33" at 18.435,-13.775 h1.5
  text "1" at -21.205,-13.775 h1.5

## CHAMP1.27-2H100 [mm] "Connector; 100 Position; Right Angle; Pitch 1.27 mm"
height 9.6
pads (102):
  rect 1.4x1.4 hole 0.8: 1(-31.115,-10.5)
  round 1.4 hole 0.8: 2(-29.845,-8.595) 3(-28.575,-10.5) 4(-27.305,-8.595) 5(-26.035,-10.5) 6(-24.765,-8.595) 7(-23.495,-10.5) 8(-22.225,-8.595) 9(-20.955,-10.5) 10(-19.685,-8.595) 11(-18.415,-10.5) 12(-17.145,-8.595) 13(-15.875,-10.5) 14(-14.605,-8.595) 15(-13.335,-10.5) 16(-12.065,-8.595) 17(-10.795,-10.5) 18(-9.525,-8.595) 19(-8.255,-10.5) 20(-6.985,-8.595) 21(-5.715,-10.5) 22(-4.445,-8.595) 23(-3.175,-10.5) 24(-1.905,-8.595) 25(-0.635,-10.5) 26(0.635,-8.595) 27(1.905,-10.5) 28(3.175,-8.595) 29(4.445,-10.5) 30(5.715,-8.595) 31(6.985,-10.5) 32(8.255,-8.595) 33(9.525,-10.5) 34(10.795,-8.595) 35(12.065,-10.5) 36(13.335,-8.595) 37(14.605,-10.5) 38(15.875,-8.595) 39(17.145,-10.5) 40(18.415,-8.595) 41(19.685,-10.5) 42(20.955,-8.595) 43(22.225,-10.5) 44(23.495,-8.595) 45(24.765,-10.5) 46(26.035,-8.595) 47(27.305,-10.5) 48(28.575,-8.595) 49(29.845,-10.5) 50(31.115,-8.595) 51(31.115,-4.785) 52(29.845,-6.69) 53(28.575,-4.785) 54(27.305,-6.69) 55(26.035,-4.785) 56(24.765,-6.69) 57(23.495,-4.785) 58(22.225,-6.69) 59(20.955,-4.785) 60(19.685,-6.69) 61(18.415,-4.785) 62(17.145,-6.69) 63(15.875,-4.785) 64(14.605,-6.69) 65(13.335,-4.785) 66(12.065,-6.69) 67(10.795,-4.785) 68(9.525,-6.69) 69(8.255,-4.785) 70(6.985,-6.69) 71(5.715,-4.785) 72(4.445,-6.69) 73(3.175,-4.785) 74(1.905,-6.69) 75(0.635,-4.785) 76(-0.635,-6.69) 77(-1.905,-4.785) 78(-3.175,-6.69) 79(-4.445,-4.785) 80(-5.715,-6.69) 81(-6.985,-4.785) 82(-8.255,-6.69) 83(-9.525,-4.785) 84(-10.795,-6.69) 85(-12.065,-4.785) 86(-13.335,-6.69) 87(-14.605,-4.785) 88(-15.875,-6.69) 89(-17.145,-4.785) 90(-18.415,-6.69) 91(-19.685,-4.785) 92(-20.955,-6.69) 93(-22.225,-4.785) 94(-23.495,-6.69) 95(-24.765,-4.785) 96(-26.035,-6.69) 97(-27.305,-4.785) 98(-28.575,-6.69) 99(-29.845,-4.785) 100(-31.115,-6.69)
  round 5.5 hole 2.8: 101(-39.125,-8.595) 102(39.125,-8.595)
Top Overlay:
  lines w0.2: -42.075,-2.5 42.075,-2.5 ; -38.09,4.27 -37.15,4.898 -36.428,4.898 cw(c-36.53,4.5) -36.12,4.5 ; -38.076,4.255 ccw(c-37.85,4.01) -38.1,3.79 -37.22,3.79 -37.22,0 ; -36.12,4.52 -35.75,0 ; -35.01,0.005 ccw(c-35.01,0.7) -34.315,0.7 -34.315,4.5 ; -34.31,4.505 cw(c-33.615,4.505) -33.615,5.2 33.615,5.2 ; -32.875,-11.8 -32.875,-2.58 ; 32.875,-11.8 32.875,-2.5 ; 33.63,5.2 cw(c33.63,4.505) 34.325,4.505 ; 34.33,4.5 34.33,0.7 ccw(c35.025,0.7) 35.025,0.005 ; 35.765,0 36.135,4.52 ; 36.135,4.5 cw(c36.545,4.5) 36.443,4.898 37.165,4.898 38.105,4.27 ; 37.235,0 37.235,3.79 38.115,3.79 ccw(c37.865,4.01) 38.091,4.255 ; -42.075,-11.8 42.075,-11.8 42.075,0 -42.075,0 -42.075,-11.8
  text "51" at 30.115,-2.025 h1.5
  text "100" at -32.99,-2.025 h1.5
  text "49" at 28.595,-13.775 h1.5
  text "1" at -31.365,-13.775 h1.5